# EAGLE library part SOIC16-GENERIC (library BMC components)
SOIC-16 / D (R-PDSO-G16) A generic SOIC-16 component, based on TI's D (R-PDSO-16) drawing: http://www.ti.com/lit/ml/mpds178g/mpds178g.pdf Pin pitch: 0.05" Device width: 4mm Device length: 10mm Components which have been confirmed to fit in this package: TI ULN2003V12 (ULN2003V12DR)
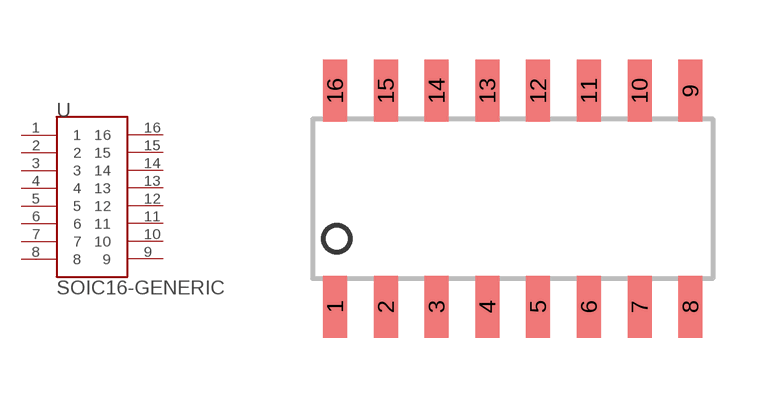
[diagram p19: symbol with the pads of SOIC16_D; footprint SOIC16_D]

Designator prefix -

## SOIC16-GENERIC  [SOIC16_D]
1  1
2  2
3  3
4  4
5  5
6  6
7  7
8  8
9  9
10  10
11  11
12  12
13  13
14  14
15  15
16  16

## Footprint SOIC16_D (pad centres in mm)
smd 0.6 x 1.55: 1 -4.445,-2.7; 2 -3.175,-2.7; 3 -1.905,-2.7; 4 -0.635,-2.7; 5 0.635,-2.7; 6 1.905,-2.7; 7 3.175,-2.7; 8 4.445,-2.7; 9 4.445,2.7; 10 3.175,2.7; 11 1.905,2.7; 12 0.635,2.7; 13 -0.635,2.7; 14 -1.905,2.7; 15 -3.175,2.7; 16 -4.445,2.7